# Altium schematic symbol library Connector2_3.5mm_puissance.SchLib: 1 symbol
Pins are listed as number, name and electrical type; pins without a type are passive.

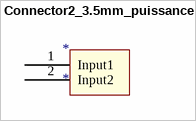
[diagram p0: symbol Connector2_3.5mm_puissance]

## Connector2_3.5mm_puissance
designator *
footprint Connector2_3.5mm_puissance
pins: 1 Input1 (power), 2 Input2 (power)